# EAGLE library part SWD_6PIN_NEEDLE_CONN (library samdg)
SWD Programming footprint for segger needle programmer JTAG/SWD programmer
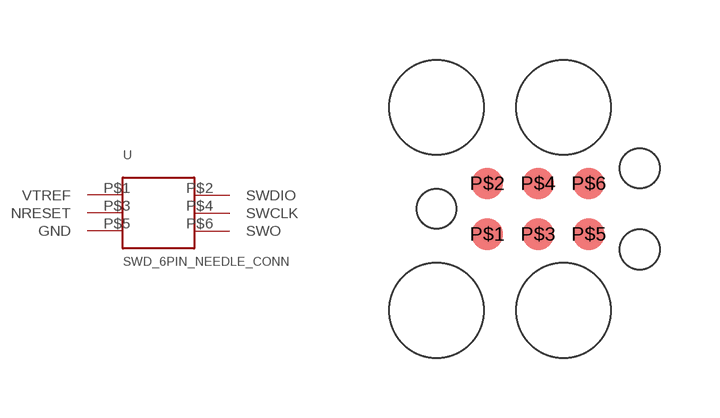
[diagram p3: symbol with the pads of SWD_6PIN_NEEDLE; footprint SWD_6PIN_NEEDLE]

Designator prefix -

## SWD_6PIN_NEEDLE_CONN  [SWD_6PIN_NEEDLE]
P$1  VTREF  pas
P$2  SWDIO  pas
P$3  NRESET  pas
P$4  SWCLK  pas
P$5  GND  pas
P$6  SWO  pas

## Footprint SWD_6PIN_NEEDLE (pad centres in mm)
smd 0.787 x 0.787: P$1 1.27,1.905; P$2 1.27,3.175; P$3 2.54,1.905; P$4 2.54,3.175; P$5 3.81,1.905; P$6 3.81,3.175
hole 2.375 at 0,5.08
hole 2.375 at 0,0
hole 2.375 at 3.175,5.08
hole 2.375 at 3.175,0
hole 0.991 at 0,2.54
hole 0.991 at 5.08,3.556
hole 0.991 at 5.08,1.524